# EAGLE library part NRPN10 (library con-sullins-nrpn)
HEADER
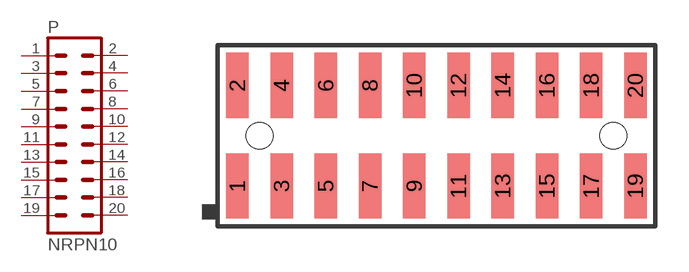
[diagram p7: symbol with the pads of NRPN10; footprint NRPN10]

Designator prefix P

## NRPN10  [NRPN10]
1  1  pas
2  2  pas
3  3  pas
4  4  pas
5  5  pas
6  6  pas
7  7  pas
8  8  pas
9  9  pas
10  10  pas
11  11  pas
12  12  pas
13  13  pas
14  14  pas
15  15  pas
16  16  pas
17  17  pas
18  18  pas
19  19  pas
20  20  pas

## Footprint NRPN10 (pad centres in mm)
HEADER
smd 1.02 x 2.95: 1 -9,-2.275; 2 -9,2.275; 3 -7,-2.275; 4 -7,2.275; 5 -5,-2.275; 6 -5,2.275; 7 -3,-2.275; 8 -3,2.275; 9 -1,-2.275; 10 -1,2.275; 11 1,-2.275; 12 1,2.275; 13 3,-2.275; 14 3,2.275; 15 5,-2.275; 16 5,2.275; 17 7,-2.275; 18 7,2.275; 19 9,-2.275; 20 9,2.275
hole 1.2 at -8,0
hole 1.2 at 8,0